# Altium footprint library SOT343.PcbLib: 1 footprints
Each footprint in its own frame and in the unit in brackets; x right, y up, seen from the top. Pads: shape width x height; smd on the part's side, far side on the other; paste and mask are expansions set on the pad; w line width, h text height; cw(c..) or ccw(c..) is an arc to the next point about the centre after c.
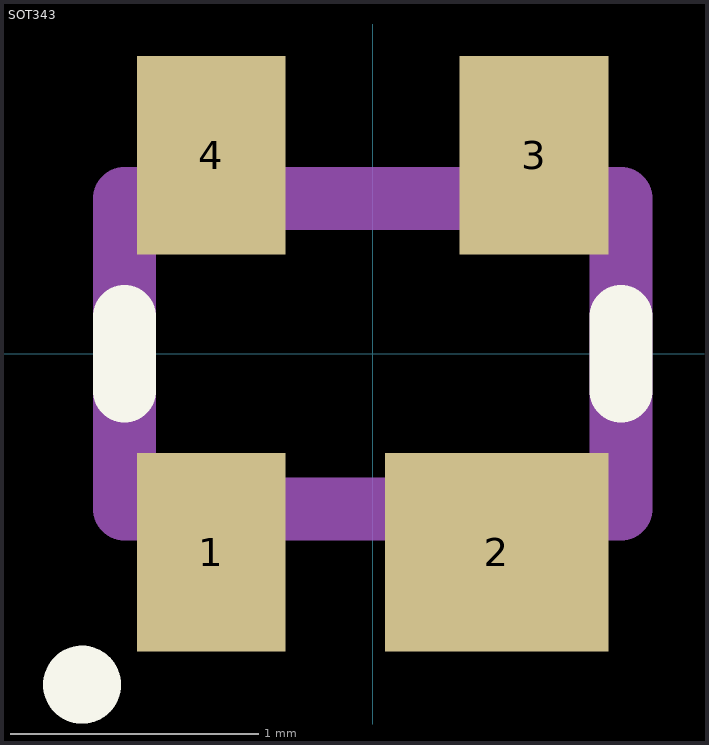
[diagram p0: the footprint, top view; thin cyan lines are the x and y axes]

## SOT343 [mm]
pads (4):
  rect 0.6x0.8 smd: 1(-0.65,-0.8) 3(0.65,0.8) 4(-0.65,0.8)
  rect 0.9x0.8 smd: 2(0.5,-0.8)
Top Overlay:
  circle w0.254: c-1.17,-1.333 r0.03
  lines w0.254: -1,-0.15 -1,0.15 ; 1,-0.15 1,0.15
Mechanical 15:
  lines w0.254: -1,-0.625 1,-0.625 1,0.625 -1,0.625 -1,-0.625
3D body "BCR402WH6327XTSA1.stp": height 5.8, standoff -4.65, extent -10,-3.376 10,3.376